# Altium footprint library 2192MST.PcbLib: 1 footprints
Each footprint in its own frame and in the unit in brackets; x right, y up, seen from the top. Pads: shape width x height; smd on the part's side, far side on the other; paste and mask are expansions set on the pad; w line width, h text height; cw(c..) or ccw(c..) is an arc to the next point about the centre after c.
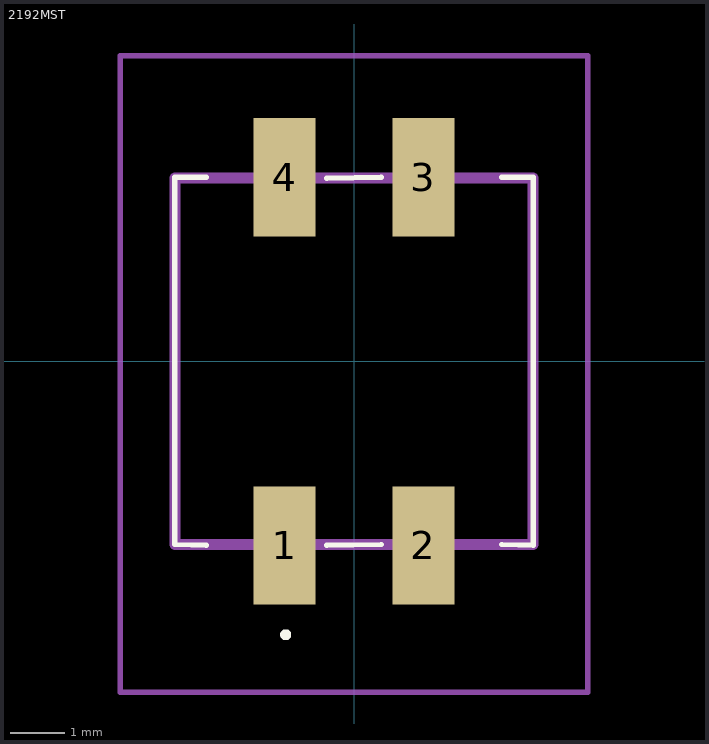
[diagram p0: the footprint, top view; thin cyan lines are the x and y axes]

## 2192MST [mm]
pads (4):
  rect 1.13x2.16 smd: 1(-1.27,-3.365) 2(1.27,-3.365) 3(1.27,3.365) 4(-1.27,3.365)
Top Overlay:
  lines w0.1: -2.7,-3.365 -3.275,-3.35 -3.275,3.365 -2.7,3.365 ; -0.5,-3.365 0.5,-3.35 ; -0.5,3.35 0.5,3.365 ; 2.7,-3.35 3.275,-3.365 3.275,3.365 2.7,3.365 ; -1.3,-5 -1.3,-5 ; -1.3,-5 ccw(c-1.25,-5) -1.2,-5 ; -1.3,-5 cw(c-1.25,-5) -1.2,-5 ; -1.2,-5 -1.2,-5
Mechanical 15:
  lines w0.2: -3.275,-3.35 3.275,-3.35 3.275,3.35 -3.275,3.35 -3.275,-3.35
Mechanical 20:
  lines w0.1: -4.275,-6.05 4.275,-6.05 4.275,5.585 -4.275,5.585 -4.275,-6.05